# EAGLE library part FHEADER-2X3 (library con-FHEADER-2.54)
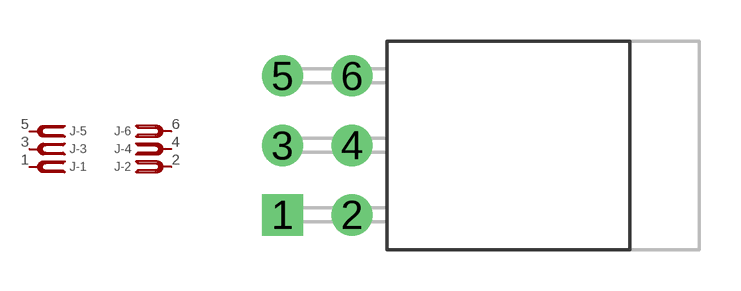
[diagram p0: symbol with the pads of 2X3_TH_RA; footprint 2X3_TH_RA]

Designator prefix J; gates -2=FORK-L -1=FORK-R -3=FORK-R -4=FORK-L -5=FORK-R -6=FORK-L

## FHEADER-2X3 (MPN: FR20203HBDN, PPTC032LJBN-RC, SSQ-103-02-T-D-RA)  [2X3_TH_RA]
1  -1:P$1  pas
2  -2:P$1  pas
3  -3:P$1  pas
4  -4:P$1  pas
5  -5:P$1  pas
6  -6:P$1  pas

## Footprint 2X3_TH_RA (pad centres in mm)
drill 1 square: 1 -8.255,-2.54
drill 1: 2 -5.715,-2.54; 3 -8.255,0; 4 -5.715,0; 5 -8.255,2.54; 6 -5.715,2.54